# EAGLE library part MCP2022A (library ICs)
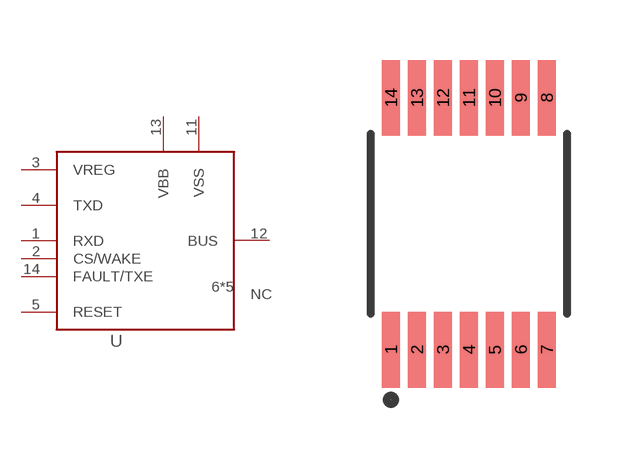
[diagram p27: symbol with the pads of TSSOP14; footprint TSSOP14]

Designator prefix -

## MCP2022A  [TSSOP14]
1  RXD
2  CS/WAKE
3  VREG
4  TXD
5  RESET
6  NC
7  NC
8  NC
9  NC
10  NC
11  VSS
12  BUS
13  VBB
14  FAULT/TXE

## Footprint TSSOP14 (pad centres in mm)
14-Lead Plastic Thin Shrink Small Outline (ST) - 4.4 mm Body TSSOP
smd 0.45 x 1.9: 1 -1.95,-3.15; 2 -1.3,-3.15; 3 -0.65,-3.15; 4 0,-3.15; 5 0.65,-3.15; 6 1.3,-3.15; 7 1.95,-3.15; 8 1.95,3.15; 9 1.3,3.15; 10 0.65,3.15; 11 0,3.15; 12 -0.65,3.15; 13 -1.3,3.15; 14 -1.95,3.15